# EAGLE library part CN3065 (library Common-Parts-Library-Eagle)
SMD PMIC; Liner; Li-Ion/Pol; Charge; 4.2V; 1-cell
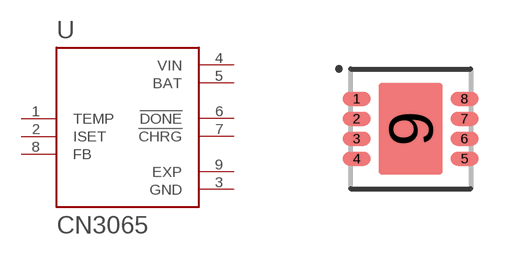
[diagram p52: symbol with the pads of DFN300X300X90-9N; footprint DFN300X300X90-9N]

Designator prefix U

## CN3065 (MANUFACTURER: Consonance)  [DFN300X300X90-9N]
1  TEMP  in
2  ISET  in
3  GND  pwr
4  VIN  pwr
5  BAT  pwr
6  !DONE  out
7  !CHRG  out
8  FB  in
9  EXP  pwr

## Footprint DFN300X300X90-9N (pad centres in mm)
smd 0.7 x 0.35: 1 -1.35,0.75; 2 -1.35,0.25; 3 -1.35,-0.25; 4 -1.35,-0.75; 5 1.35,-0.75; 6 1.35,-0.25; 7 1.35,0.25; 8 1.35,0.75
smd 1.6 x 2.3: 9 0,0